# EAGLE library part HEADER-2X4P (library Connector-new)
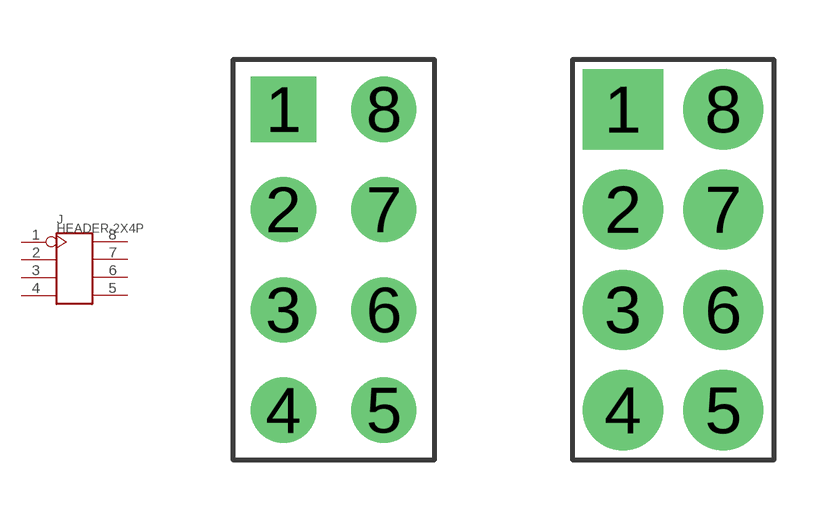
[diagram p0: symbol with the pads of H2X4-2.54-65/35MIL; footprints H2X4-2.54-65/35MIL, H2X4-2.54-80/35MIL]

Designator prefix J

## HEADER-2X4P-2.54-65/35MIL  [H2X4-2.54-65/35MIL]
1  1
2  2
3  3
4  4
5  5
6  6
7  7
8  8

## HEADER-2X4P-2.54-80/35MIL  [H2X4-2.54-80/35MIL]
Pads as for H2X4-2.54-65/35MIL

## HEADER-2X4P-2.54-80/35MIL-RIGHT  [H2X4-2.54-80/35MIL-RIGHT]
Pads as for H2X4-2.54-65/35MIL

## HEADER-2X4P-2.54-SMD  [H2X4-SMD-2.54]
Pads as for H2X4-2.54-65/35MIL

## Footprint H2X4-2.54-65/35MIL (pad centres in mm)
drill 0.889 pad 1.651 square: 1 -1.27,3.81
drill 0.889 pad 1.651: 2 -1.27,1.27; 3 -1.27,-1.27; 4 -1.27,-3.81; 5 1.27,-3.81; 6 1.27,-1.27; 7 1.27,1.27; 8 1.27,3.81

## Footprint H2X4-2.54-80/35MIL (pad centres in mm)
drill 0.889 pad 2.032 square: 1 -1.27,3.81
drill 0.889 pad 2.032: 2 -1.27,1.27; 3 -1.27,-1.27; 4 -1.27,-3.81; 5 1.27,-3.81; 6 1.27,-1.27; 7 1.27,1.27; 8 1.27,3.81

## Footprint H2X4-2.54-80/35MIL-RIGHT (pad centres in mm)
drill 0.889 pad 2.032 square: 1 -1.27,3.81
drill 0.889 pad 2.032: 2 -1.27,1.27; 3 -1.27,-1.27; 4 -1.27,-3.81; 5 1.27,-3.81; 6 1.27,-1.27; 7 1.27,1.27; 8 1.27,3.81

## Footprint H2X4-SMD-2.54 (pad centres in mm)
smd 2.54 x 1.524: 1 -2.794,3.81; 2 -2.794,1.27; 3 -2.794,-1.27; 4 -2.794,-3.81; 5 2.794,-3.81; 6 2.794,-1.27; 7 2.794,1.27; 8 2.794,3.81